# EAGLE library part I4S_DEBUG (library laforge)
iPhone 4S Debug Connector (adapter side, not phone side)
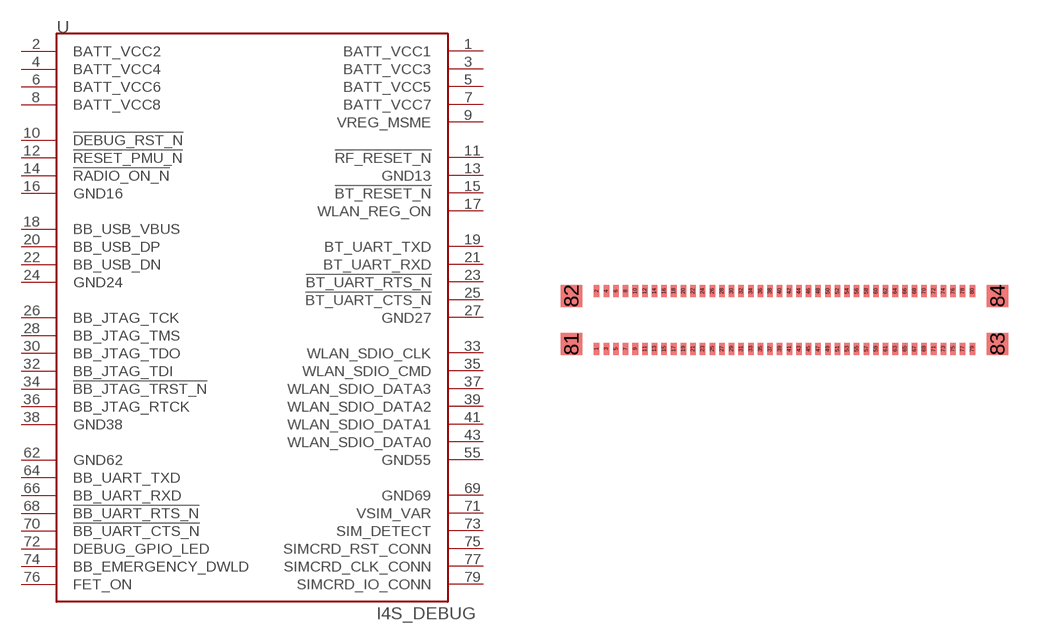
[diagram p28: symbol with the pads of AXE580124; footprint AXE580124]

Designator prefix -

## I4S_DEBUG  [AXE580124]
1  BATT_VCC1
2  BATT_VCC2
3  BATT_VCC3
4  BATT_VCC4
5  BATT_VCC5
6  BATT_VCC6
7  BATT_VCC7
8  BATT_VCC8
9  VREG_MSME
10  !DEBUG_RST_N
11  !RF_RESET_N
12  !RESET_PMU_N
13  GND13
14  !RADIO_ON_N
15  !BT_RESET_N
16  GND16
17  WLAN_REG_ON
18  BB_USB_VBUS
19  BT_UART_TXD
20  BB_USB_DP
21  BT_UART_RXD
22  BB_USB_DN
23  !BT_UART_RTS_N
24  GND24
25  !BT_UART_CTS_N
26  BB_JTAG_TCK
27  GND27
28  BB_JTAG_TMS
30  BB_JTAG_TDO
32  BB_JTAG_TDI
33  WLAN_SDIO_CLK
34  !BB_JTAG_TRST_N
35  WLAN_SDIO_CMD
36  BB_JTAG_RTCK
37  WLAN_SDIO_DATA3
38  GND38
39  WLAN_SDIO_DATA2
41  WLAN_SDIO_DATA1
43  WLAN_SDIO_DATA0
55  GND55
62  GND62
64  BB_UART_TXD
66  BB_UART_RXD
68  !BB_UART_RTS_N
69  GND69
70  !BB_UART_CTS_N
71  VSIM_VAR
72  DEBUG_GPIO_LED
73  SIM_DETECT
74  BB_EMERGENCY_DWLD
75  SIMCRD_RST_CONN
76  FET_ON
77  SIMCRD_CLK_CONN
79  SIMCRD_IO_CONN

## Footprint AXE580124 (pad centres in mm)
Panasonic A4S Series, AXE580124 (socket)
smd 0.23 x 0.5: 1 -7.8,-1.2; 2 -7.8,1.2; 3 -7.4,-1.2; 4 -7.4,1.2; 5 -7,-1.2; 6 -7,1.2; 7 -6.6,-1.2; 8 -6.6,1.2; 9 -6.2,-1.2; 10 -6.2,1.2; 11 -5.8,-1.2; 12 -5.8,1.2; 13 -5.4,-1.2; 14 -5.4,1.2; 15 -5,-1.2; 16 -5,1.2; 17 -4.6,-1.2; 18 -4.6,1.2; 19 -4.2,-1.2; 20 -4.2,1.2; 21 -3.8,-1.2; 22 -3.8,1.2; 23 -3.4,-1.2; 24 -3.4,1.2; 25 -3,-1.2; 26 -3,1.2; 27 -2.6,-1.2; 28 -2.6,1.2; 29 -2.2,-1.2; 30 -2.2,1.2; 31 -1.8,-1.2; 32 -1.8,1.2; 33 -1.4,-1.2; 34 -1.4,1.2; 35 -1,-1.2; 36 -1,1.2; 37 -0.6,-1.2; 38 -0.6,1.2; 39 -0.2,-1.2; 40 -0.2,1.2; 41 0.2,-1.2; 42 0.2,1.2; 43 0.6,-1.2; 44 0.6,1.2; 45 1,-1.2; 46 1,1.2; 47 1.4,-1.2; 48 1.4,1.2; 49 1.8,-1.2; 50 1.8,1.2; 51 2.2,-1.2; 52 2.2,1.2; 53 2.6,-1.2; 54 2.6,1.2; 55 3,-1.2; 56 3,1.2; 57 3.4,-1.2; 58 3.4,1.2; 59 3.8,-1.2; 60 3.8,1.2; 61 4.2,-1.2; 62 4.2,1.2; 63 4.6,-1.2; 64 4.6,1.2; 65 5,-1.2; 66 5,1.2; 67 5.4,-1.2; 68 5.4,1.2; 69 5.8,-1.2; 70 5.8,1.2; 71 6.2,-1.2; 72 6.2,1.2; 73 6.6,-1.2; 74 6.6,1.2; 75 7,-1.2; 76 7,1.2; 77 7.4,-1.2; 78 7.4,1.2; 79 7.8,-1.2; 80 7.8,1.2
smd 0.9 x 0.92: 81 -8.85,-1; 82 -8.85,1; 83 8.85,-1; 84 8.85,1